# Altium footprint library X_3.2x2.5&&2.5X2.PcbLib: 1 footprints
Each footprint in its own frame and in the unit in brackets; x right, y up, seen from the top. Pads: shape width x height; smd on the part's side, far side on the other; paste and mask are expansions set on the pad; w line width, h text height; cw(c..) or ccw(c..) is an arc to the next point about the centre after c.
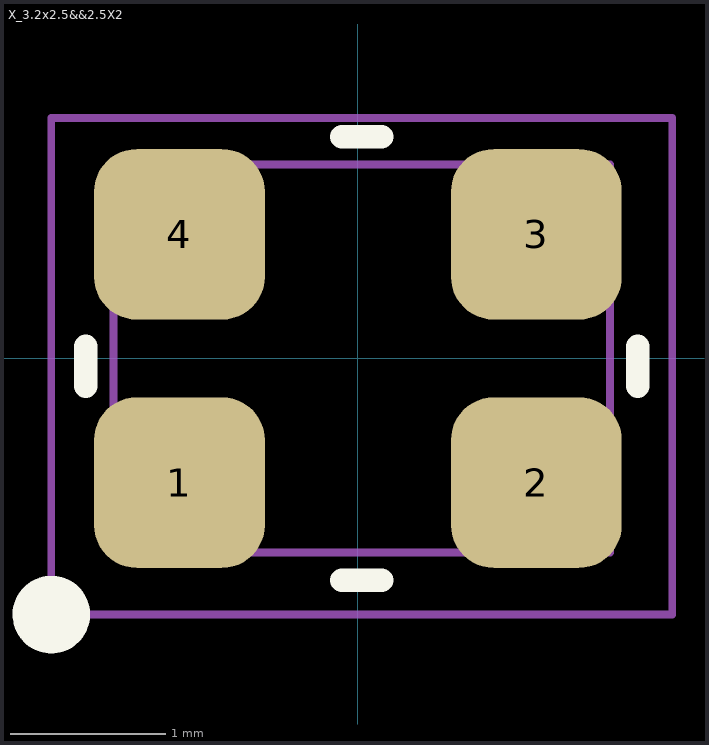
[diagram p0: the footprint, top view; thin cyan lines are the x and y axes]

## X_3.2x2.5&&2.5X2 [mm] "Crystal resonator; 3.2mm x 2.5mm"
height 1.2
pads (4):
  rrect50% 1.1x1.1 smd paste-0.07 mask+0.05: 1(-1.15,-0.8) 2(1.15,-0.8) 3(1.15,0.8) 4(-1.15,0.8)
Top Overlay:
  lines w0.152: -1.753,-0.177 -1.753,0.077 ; -0.102,-1.428 0.152,-1.428 ; -0.102,1.428 0.152,1.428 ; 1.803,-0.177 1.803,0.077
  lines w0.3: -1.875,-1.65 cw(c-1.975,-1.65) -1.875,-1.648
Top Assembly:
  lines w0.05: -1.575,-1.25 -1.575,1.25 1.625,1.25 1.625,-1.25 -1.575,-1.25
Top Courtyard:
  lines w0.05: -1.975,-1.65 -1.975,1.55 2.025,1.55 2.025,-1.65 -1.975,-1.65
3D body "User Library-ABM8G.step": height 1.01, standoff 0, extent -1.6,-1.25 1.6,1.25